# EAGLE library part NOK5110_PIN (library WallerLabLib)
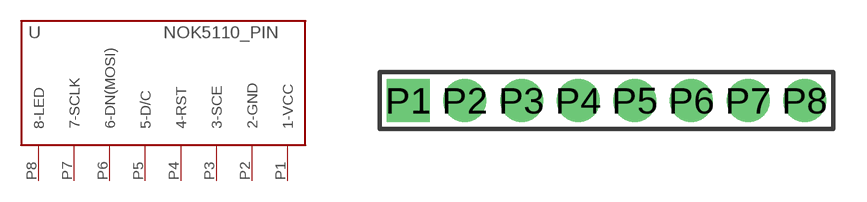
[diagram p2: symbol with the pads of 8PIN_HOLES; footprint 8PIN_HOLES]

Designator prefix -

## NOK5110_PIN8-PIN1  [8PIN_HOLES]
P1  1-VCC
P2  2-GND
P3  3-SCE
P4  4-RST
P5  5-D/C
P6  6-DN(MOSI)
P7  7-SCLK
P8  8-LED

## Footprint 8PIN_HOLES (pad centres in mm)
drill 0.9 pad 1.93 square: P1 0,0
drill 0.9 pad 1.93: P2 2.54,0; P3 5.08,0; P4 7.62,0; P5 10.16,0; P6 12.7,0; P7 15.24,0; P8 17.78,0